# Altium schematic symbol library Schlib1.SchLib: 2 symbols
Pins are listed as number, name and electrical type; pins without a type are passive.

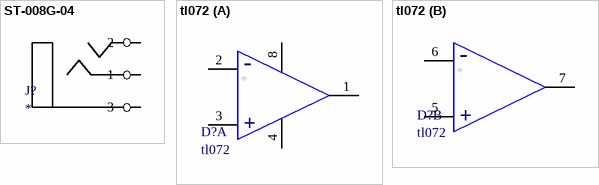
[diagram p0: symbols ST-008G-04 to tl072]

## ST-008G-04
designator J?
footprint ST-008G-04
pins: 1, 2, 3

## tl072
designator D?
part A pins: 1 Q hidden, 1, 2 GND hidden, 2, 3 Vp hidden, 3, 4 Vn hidden, 4, 5 LE/HYS hidden, 8
part B pins: 5, 6, 7
part A text: -; +
part B text: -; +